# EAGLE library part SIL9 (library mb_ics)
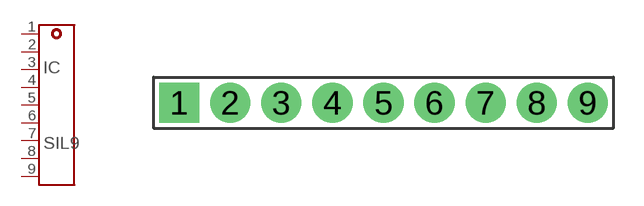
[diagram p24: symbol with the pads of SOCK-SIP-09; footprint SOCK-SIP-09]

Designator prefix IC

## SIL9  [SOCK-SIP-09]
1  1  pas
2  2  pas
3  3  pas
4  4  pas
5  5  pas
6  6  pas
7  7  pas
8  8  pas
9  9  pas

## Footprint SOCK-SIP-09 (pad centres in mm)
drill 1 pad 2 square: 1 -10.16,0
drill 1 pad 2: 2 -7.62,0; 3 -5.08,0; 4 -2.54,0; 5 0,0; 6 2.54,0; 7 5.08,0; 8 7.62,0; 9 10.16,0